# Altium schematic symbol library sound.SchLib: 1 symbol
Pins are listed as number, name and electrical type; pins without a type are passive.

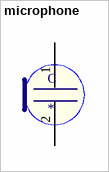
[diagram p0: symbol microphone]

## microphone
designator C
pins: 1, 2